# Altium footprint library mylib.PcbLib: 33 footprints (part 2 of 3)
Each footprint in its own frame and in the unit in brackets; x right, y up, seen from the top. Pads: shape width x height; smd on the part's side, far side on the other; paste and mask are expansions set on the pad; w line width, h text height; cw(c..) or ccw(c..) is an arc to the next point about the centre after c.
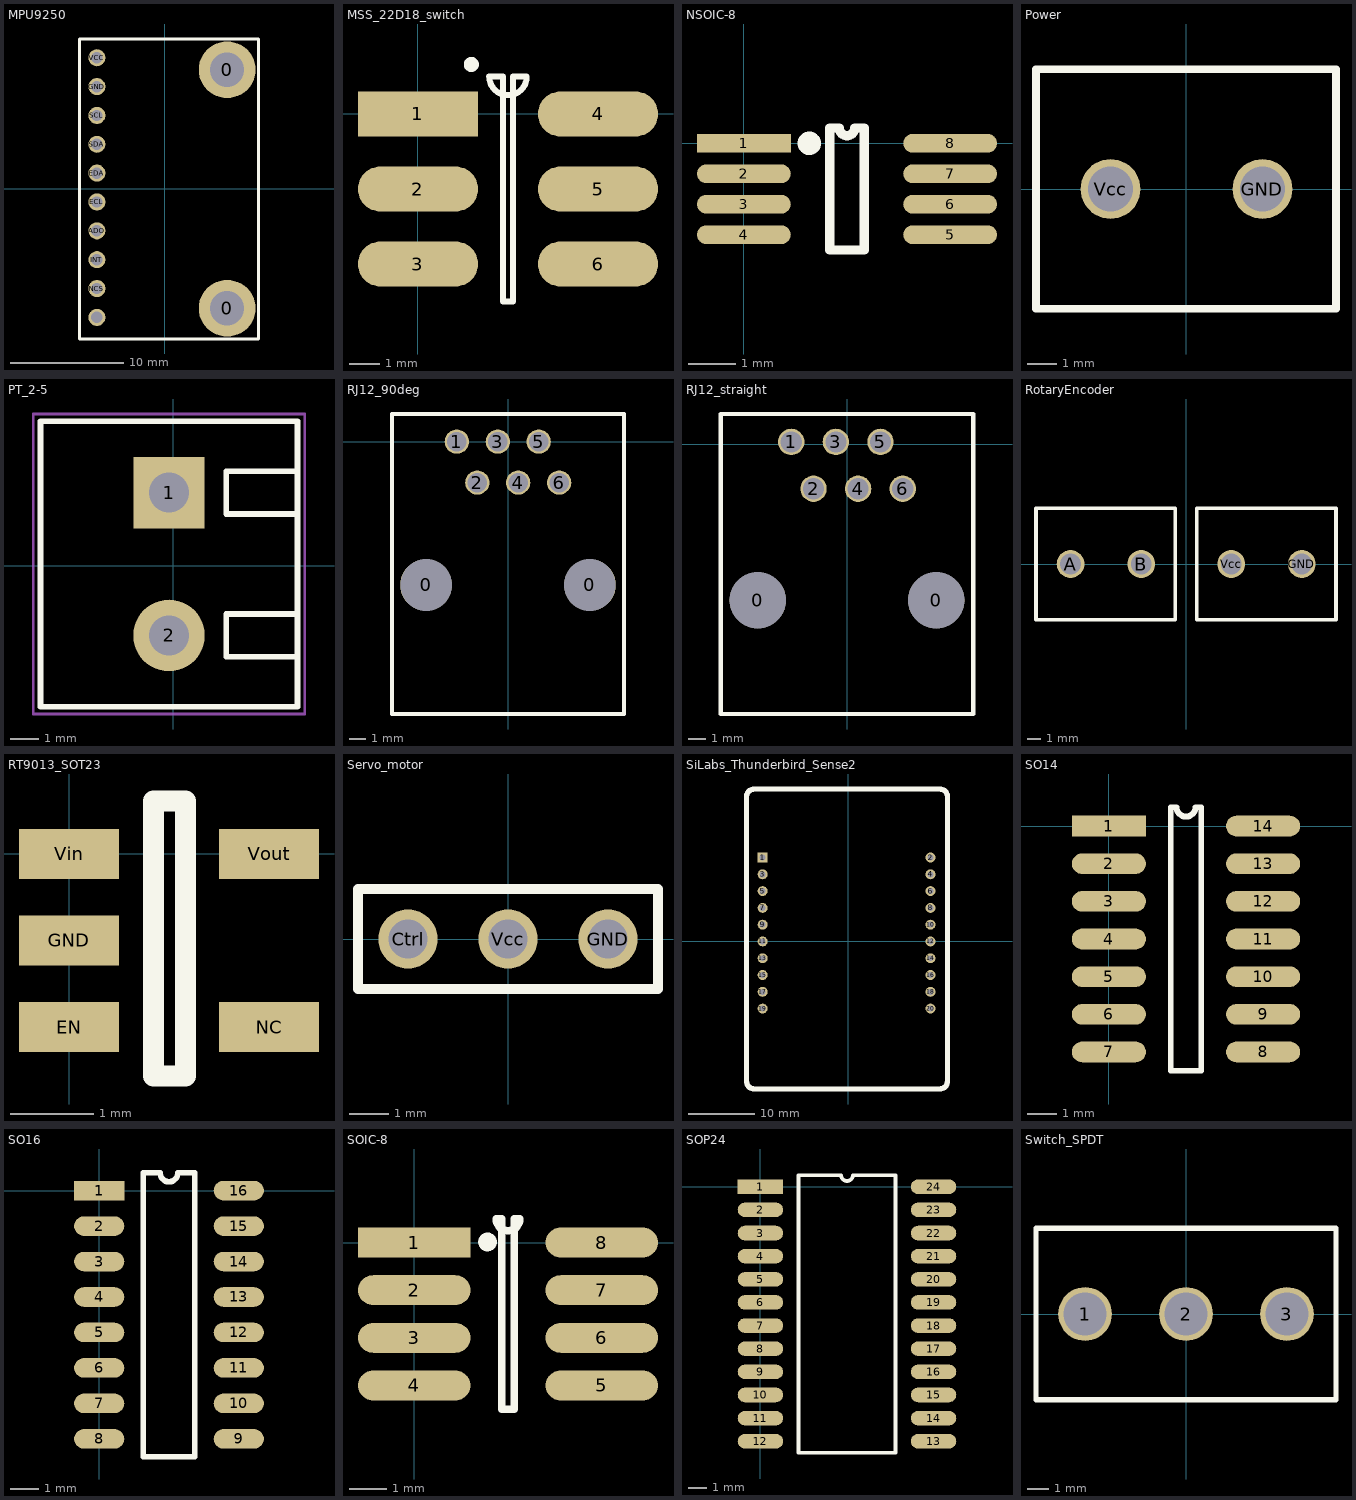
[diagram p1: the footprints below, top view; thin cyan lines are the x and y axes]

## MPU9250 [mm]
pads (12):
  round 5 hole 3: 0(5.5,-10.5) 0(5.5,10.5)
  round 1.5 hole 1: ADO(-5.969,-3.683) ECL(-5.969,-1.143) EDA(-5.969,1.397) FSYNC(-5.969,-11.303) GND(-5.969,9.017) INT(-5.969,-6.223) NCS(-5.969,-8.763) SCL(-5.969,6.477) SDA(-5.969,3.937) VCC(-5.969,11.557)
Top Overlay:
  lines w0.254: -7.5,-13.208 -7.5,13.208 8.255,13.208 8.255,-13.208 -7.5,-13.208

## MSS_22D18_switch [mm]
pads (6):
  rect 4x1.5 smd: 1(0,0)
  oval 4x1.5 smd: 2(0,-2.5) 3(0,-5) 4(6,0) 5(6,-2.5) 6(6,-5)
Top Overlay:
  circle w0.25: c1.778,1.651 r0.125
  lines w0.2: 2.375,1.25 ccw(c3,1.25) 3.625,1.25 3.165,1.25 3.165,-6.25 2.835,-6.25 2.835,1.25 2.375,1.25

## NSOIC-8 [mm]
pads (8):
  rect 2x0.4 smd: 1(0,0)
  oval 2x0.4 smd: 2(0,-0.65) 3(0,-1.3) 4(0,-1.95) 5(4.4,-1.95) 6(4.4,-1.3) 7(4.4,-0.65) 8(4.4,0)
Top Overlay:
  circle w0.25: c1.397,0 r0.125
  lines w0.2: 1.835,-2.275 2.565,-2.275 2.565,0.325 2.362,0.325 cw(c2.2,0.325) 2.037,0.325 1.835,0.325 1.835,-2.275

## Power [mm]
pads (2):
  round 2 hole 1.5: GND(2.54,0) Vcc(-2.54,0)
Top Overlay:
  lines w0.254: -5.033,-4 -5.033,4 ; -5,-4 5,-4 5,4 ; 5,4 -5,4 5,4

## PT_2-5 [mm] "PCB terminal block, nominal current: 32 A, nom. voltage: 400 V, pitch: 5 mm, number of positions: 2"
pads (2):
  rect 2.5x2.5 hole 1.4: 1(-0.15,2.555)
  round 2.5 hole 1.4: 2(-0.15,-2.445)
Top Overlay:
  lines w0.2: 4.35,-3.195 1.85,-3.195 1.85,-1.695 4.35,-1.695 4.35,1.805 1.85,1.805 1.85,3.305 4.35,3.305 ; -4.65,-4.945 4.35,-4.945 4.35,5.055 -4.65,5.055 -4.65,-4.945
Mechanical 20:
  lines w0.1: -4.9,-5.195 4.6,-5.195 4.6,5.305 -4.9,5.305 -4.9,-5.195
3D body "pxc_1935776_00_PT-2-5-2-5-0-H_3D.stp": height 13.55, standoff -4.05, extent -4.65,-4.945 4.35,5.055

## RJ12_90deg [mm] "RJ12 6-pin 90-degree connector"
pads (8):
  round 3.2 hole 3.2: 0(-5.08,-8.89) 0(5.08,-8.89)
  round 1.5 hole 1.2: 1(-3.175,0) 2(-1.905,-2.54) 3(-0.635,0) 4(0.635,-2.54) 5(1.905,0) 6(3.175,-2.54)
Top Overlay:
  lines w0.254: -7.2,-16.891 7.2,-16.891 7.2,1.714 -7.2,1.714 -7.2,-16.891

## RJ12_straight [mm] "RJ12 6-pin straight connector"
pads (8):
  round 3.2 hole 3.2: 0(-5.08,-8.89) 0(5.08,-8.89)
  round 1.5 hole 1.2: 1(-3.175,0.127) 2(-1.905,-2.54) 3(-0.635,0.127) 4(0.635,-2.54) 5(1.905,0.127) 6(3.175,-2.54)
Top Overlay:
  lines w0.254: -7.2,-15.367 -7.2,1.714 7.2,1.714 7.2,-15.367 -7.2,-15.367

## RotaryEncoder [mm]
pads (4):
  round 2 hole 1.5: A(-8.302,0) B(-3.222,0) GND(8.335,0) Vcc(3.255,0)
Top Overlay:
  lines w0.254: -10.795,-4 -10.795,4 -0.762,4 -0.762,-4 -10.762,-4 ; 0.762,-4 0.762,4 ; 0.795,-4 10.795,-4 10.795,4 ; 10.795,4 0.795,4 10.795,4

## RT9013_SOT23 [mm] "RT9013 LDO Voltage Regulator"
pads (5):
  rect 1.2x0.6 smd: EN(0,-2.08) GND(0,-1.04) NC(2.4,-2.08) Vin(0,0) Vout(2.4,0)
Top Overlay:
  lines w0.254: 1.016,-2.667 1.016,0.635 1.397,0.635 1.397,-2.667 1.016,-2.667

## Servo_motor [mm]
pads (3):
  round 1.5 hole 1: Ctrl(-2.54,0) GND(2.54,0) Vcc(0,0)
Top Overlay:
  lines w0.254: -3.81,-1.27 -3.81,1.27 3.81,1.27 3.81,-1.27 -3.81,-1.27

## SiLabs_Thunderbird_Sense2 [mm]
pads (20):
  rect 1.5x1.5 hole 0.9: 1(-12.954,12.7)
  round 1.5 hole 0.9: 2(12.446,12.7) 3(-12.954,10.16) 4(12.446,10.16) 5(-12.954,7.62) 6(12.446,7.62) 7(-12.954,5.08) 8(12.446,5.08) 9(-12.954,2.54) 10(12.446,2.54) 11(-12.954,0) 12(12.446,0) 13(-12.954,-2.54) 14(12.446,-2.54) 15(-12.954,-5.08) 16(12.446,-5.08) 17(-12.954,-7.62) 18(12.446,-7.62) 19(-12.954,-10.16) 20(12.446,-10.16)
Top Overlay:
  lines w0.8: -15.391,-21.139 -15.371,-21.345 -15.317,-21.546 -15.231,-21.734 -15.112,-21.904 -14.964,-22.051 -14.794,-22.168 -14.606,-22.257 -14.406,-22.31 -14.2,-22.328 13.82,-22.328 14.026,-22.31 14.227,-22.257 14.415,-22.168 14.585,-22.051 14.732,-21.904 14.851,-21.734 14.938,-21.546 14.991,-21.345 15.009,-21.139 15.009,22.072 14.97,22.218 14.851,22.476 14.732,22.646 14.585,22.794 14.415,22.913 14.227,23 14.026,23.053 13.82,23.071 -14.2,23.071 -14.406,23.053 -14.606,23 -14.794,22.913 -14.964,22.794 -15.112,22.646 -15.231,22.476 -15.356,22.205 -15.391,22.072 -15.391,-21.139

## SO14 [mm]
pads (14):
  rect 2.5x0.7 smd: 1(0,0)
  oval 2.5x0.7 smd: 2(0,-1.27) 3(0,-2.54) 4(0,-3.81) 5(0,-5.08) 6(0,-6.35) 7(0,-7.62) 8(5.2,-7.62) 9(5.2,-6.35) 10(5.2,-5.08) 11(5.2,-3.81) 12(5.2,-2.54) 13(5.2,-1.27) 14(5.2,0)
Top Overlay:
  lines w0.2: 2.085,-8.255 3.115,-8.255 3.115,0.635 2.917,0.635 cw(c2.6,0.635) 2.282,0.635 2.085,0.635 2.085,-8.255

## SO16 [mm]
pads (16):
  rect 1.8x0.7 smd: 1(0,0)
  oval 1.8x0.7 smd: 2(0,-1.27) 3(0,-2.54) 4(0,-3.81) 5(0,-5.08) 6(0,-6.35) 7(0,-7.62) 8(0,-8.89) 9(5,-8.89) 10(5,-7.62) 11(5,-6.35) 12(5,-5.08) 13(5,-3.81) 14(5,-2.54) 15(5,-1.27) 16(5,0)
Top Overlay:
  lines w0.2: 1.585,-9.525 1.585,0.635 2.183,0.635 ccw(c2.5,0.635) 2.818,0.635 3.415,0.635 3.415,-9.525 1.585,-9.525

## SOIC-8 [mm]
pads (8):
  rect 3x0.8 smd: 1(0,0)
  oval 3x0.8 smd: 2(0,-1.27) 3(0,-2.54) 4(0,-3.81) 5(5,-3.81) 6(5,-2.54) 7(5,-1.27) 8(5,0)
Top Overlay:
  circle w0.25: c1.955,0.016 r0.125
  lines w0.2: 2.183,0.635 ccw(c2.5,0.635) 2.818,0.635 2.665,0.635 2.665,-4.445 2.335,-4.445 2.335,0.635 2.183,0.635

## SOP24 [mm]
pads (24):
  rect 2.5x0.8 smd: 1(0,0)
  oval 2.5x0.8 smd: 2(0,-1.27) 3(0,-2.54) 4(0,-3.81) 5(0,-5.08) 6(0,-6.35) 7(0,-7.62) 8(0,-8.89) 9(0,-10.16) 10(0,-11.43) 11(0,-12.7) 12(0,-13.97) 13(9.5,-13.97) 14(9.5,-12.7) 15(9.5,-11.43) 16(9.5,-10.16) 17(9.5,-8.89) 18(9.5,-7.62) 19(9.5,-6.35) 20(9.5,-5.08) 21(9.5,-3.81) 22(9.5,-2.54) 23(9.5,-1.27) 24(9.5,0)
Top Overlay:
  lines w0.2: 2.085,-14.605 7.415,-14.605 7.415,0.635 5.067,0.635 cw(c4.75,0.635) 4.432,0.635 2.085,0.635 2.085,-14.605

## Switch_SPDT [mm]
pads (3):
  round 2.5 hole 2: 1(-4.7,0) 2(0,0) 3(4.7,0)
Top Overlay:
  lines w0.254: -6.985,-4 6.985,-4 6.985,4 -6.985,4 -6.985,-4